# EAGLE library part UM3232EEAE (library ADM310)
Single Supply RS-232 Transceivers
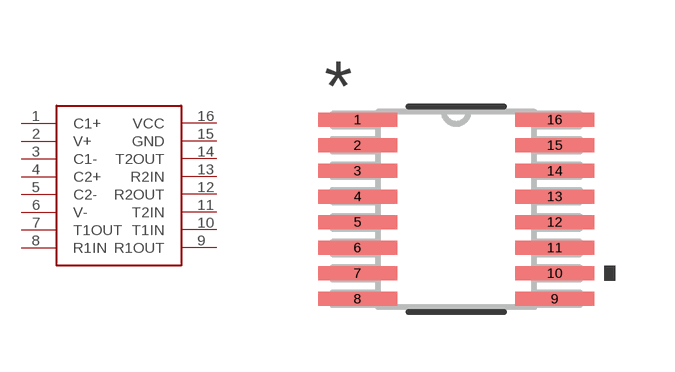
[diagram p2: symbol with the pads of RQ_16_ADI; footprint RQ_16_ADI]

Designator prefix -

## UM3232EEAE (LINK: https://www.digikey.com/en/products/detail/union-semiconductor-hk-limited/UM3232EEAE/13926063)  [RQ_16_ADI]
1  C1+
2  V+
3  C1-
4  C2+
5  C2-
6  V-
7  T1OUT
8  R1IN
9  R1OUT
10  T1IN
11  T2IN
12  R2OUT
13  R2IN
14  T2OUT
15  GND
16  VCC

## Footprint RQ_16_ADI (pad centres in mm)
smd 1.981 x 0.351: 1 -2.465,2.24; 2 -2.465,1.6; 3 -2.465,0.96; 4 -2.465,0.32; 5 -2.465,-0.32; 6 -2.465,-0.96; 7 -2.465,-1.6; 8 -2.465,-2.24; 9 2.465,-2.24; 10 2.465,-1.6; 11 2.465,-0.96; 12 2.465,-0.32; 13 2.465,0.32; 14 2.465,0.96; 15 2.465,1.6; 16 2.465,2.24